# Altium integrated library RC0402 Resistor.IntLib: 1 symbol
Pins are listed as number, name and electrical type; pins without a type are passive.

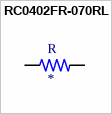
[diagram p0: symbol RC0402FR-070RL]

## RC0402FR-070RL
designator R
0 Ohms Jumper 0.063W, 1/16W Chip Resistor 0402 _1005 Metric_ Moisture Resistant Thick Film; MF: Yageo; MP: RC0402FR-070RL; Digi-Key_Part_Number: 311-0.0LRCT-ND; Digi-Key_Purchase_URL: https://www.digikey.com/product-detail/en/yageo/RC0402FR-070RL/311-0.0LRCT-ND/2827888?utm_source=snapeda&utm_medium=aggregator&utm_campaign=symbol; Value: *; SnapEDA_Link: https://www.snapeda.com/parts/RC0402FR-070RL/Yageo/view-part/1301314/?ref=snap; Package: 0402 Yageo
footprint CAPC1005X60
pins: 1, 2